# Altium integrated library Vishay Draloric Ceramic Tubular Capacitor.IntLib: 94 symbols (part 1 of 2)
Pins are listed as number, name and electrical type; pins without a type are passive.

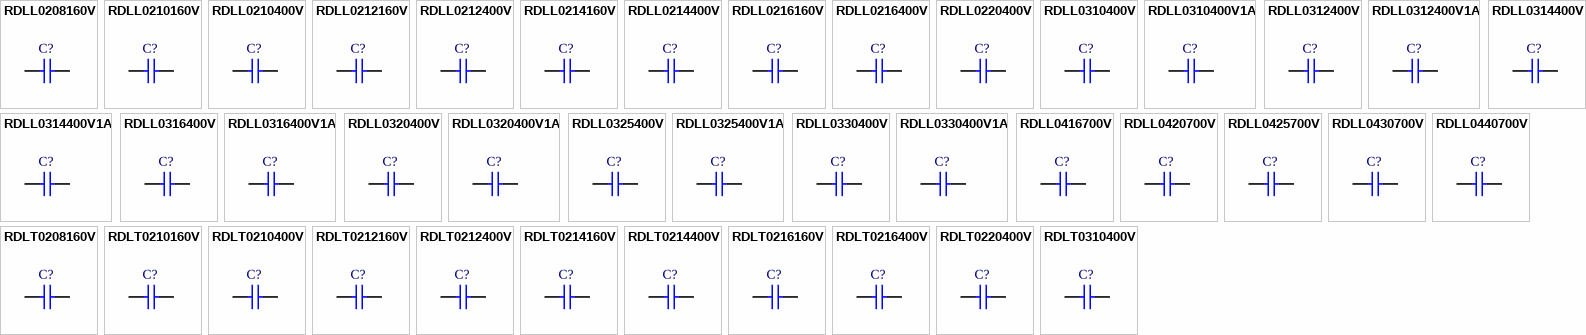
[diagram p0: symbols RDLL0208160V to RDLT0310400V]

## RDLL0208160V
designator C?
Ceramic Singlelayer Tubular Capacitor: 160V, 8mm tube length; Note: See Datasheet for other packages & tolerances; Value: 10pF; Published: 17-Dec-2003; DatasheetDocument: 15-Aug-2000; PackageReference: CAPRT5-9X3.5; Publisher: Altium Limited; ComponentLink1Description: Manufacturer Link; ComponentLink1URL: http://www.vishay.com/; ComponentLink2Description: Datasheet; ComponentLink2URL: http://www.vishay.com/docs/22021/rdlllt02.pdf
footprint CAPRT5-9X3.5 (Capacitor, Ceramic, Thu-Hole, Tubular; Body 9 x 3.5 mm (LxDia. max) Pin Spacing 5 mm (typ))
simulation model CAP (Capacitor)
signal-integrity model Cap
pins: 1, 2

## RDLL0210160V
designator C?
Ceramic Singlelayer Tubular Capacitor: 160V, 10mm tube length; Note: See Datasheet for other packages & tolerances; Value: 10pF; Published: 17-Dec-2003; DatasheetDocument: 15-Aug-2000; PackageReference: CAPRT5-11X3.5; Publisher: Altium Limited; ComponentLink1Description: Manufacturer Link; ComponentLink1URL: http://www.vishay.com/; ComponentLink2Description: Datasheet; ComponentLink2URL: http://www.vishay.com/docs/22021/rdlllt02.pdf
footprint CAPRT5-11X3.5 (Capacitor, Ceramic, Thu-Hole, Tubular; Body 11 x 3.5 mm (LxDia. max) Pin Spacing 5 mm (typ))
simulation model CAP (Capacitor)
signal-integrity model Cap
pins: 1, 2

## RDLL0210400V
designator C?
Ceramic Singlelayer Tubular Capacitor: 400V, 10mm tube length; Note: See Datasheet for other packages & tolerances; Value: 9.1pF; Published: 17-Dec-2003; DatasheetDocument: 15-Aug-2000; PackageReference: CAPRT5-11X3.5; Publisher: Altium Limited; ComponentLink1Description: Manufacturer Link; ComponentLink1URL: http://www.vishay.com/; ComponentLink2Description: Datasheet; ComponentLink2URL: http://www.vishay.com/docs/22021/rdlllt02.pdf
footprint CAPRT5-11X3.5 (Capacitor, Ceramic, Thu-Hole, Tubular; Body 11 x 3.5 mm (LxDia. max) Pin Spacing 5 mm (typ))
simulation model CAP (Capacitor)
signal-integrity model Cap
pins: 1, 2

## RDLL0212160V
designator C?
Ceramic Singlelayer Tubular Capacitor: 160V, 12mm tube length; Note: See Datasheet for other packages & tolerances; Value: 10pF; Published: 17-Dec-2003; DatasheetDocument: 15-Aug-2000; PackageReference: CAPRT7.5-13X3.5; Publisher: Altium Limited; ComponentLink1Description: Manufacturer Link; ComponentLink1URL: http://www.vishay.com/; ComponentLink2Description: Datasheet; ComponentLink2URL: http://www.vishay.com/docs/22021/rdlllt02.pdf
footprint CAPRT7.5-13X3.5 (Capacitor, Ceramic, Thu-Hole, Tubular; Body 13 x 3.5 mm (LxDia. max) Pin Spacing 7.5 mm (typ))
simulation model CAP (Capacitor)
signal-integrity model Cap
pins: 1, 2

## RDLL0212400V
designator C?
Ceramic Singlelayer Tubular Capacitor: 400V, 12mm tube length; Note: See Datasheet for other packages & tolerances; Value: 9.1pF; Published: 17-Dec-2003; DatasheetDocument: 15-Aug-2000; PackageReference: CAPRT5-13X3.5; Publisher: Altium Limited; ComponentLink1Description: Manufacturer Link; ComponentLink1URL: http://www.vishay.com/; ComponentLink2Description: Datasheet; ComponentLink2URL: http://www.vishay.com/docs/22021/rdlllt02.pdf
footprint CAPRT5-13X3.5 (Capacitor, Ceramic, Thu-Hole, Tubular; Body 13 x 3.5 mm (LxDia. max) Pin Spacing 5 mm (typ))
simulation model CAP (Capacitor)
signal-integrity model Cap
pins: 1, 2

## RDLL0214160V
designator C?
Ceramic Singlelayer Tubular Capacitor: 160V, 14mm tube length; Note: See Datasheet for other packages & tolerances; Value: 10pF; Published: 17-Dec-2003; DatasheetDocument: 15-Aug-2000; PackageReference: CAPRT7.5-15X3.5; Publisher: Altium Limited; ComponentLink1Description: Manufacturer Link; ComponentLink1URL: http://www.vishay.com/; ComponentLink2Description: Datasheet; ComponentLink2URL: http://www.vishay.com/docs/22021/rdlllt02.pdf
footprint CAPRT7.5-15X3.5 (Capacitor, Ceramic, Thu-Hole, Tubular; Body 15 x 3.5 mm (LxDia. max) Pin Spacing 7.5 mm (typ))
simulation model CAP (Capacitor)
signal-integrity model Cap
pins: 1, 2

## RDLL0214400V
designator C?
Ceramic Singlelayer Tubular Capacitor: 400V, 14mm tube length; Note: See Datasheet for other packages & tolerances; Value: 9.1pF; Published: 17-Dec-2003; DatasheetDocument: 15-Aug-2000; PackageReference: CAPRT7.5-15X3.5; Publisher: Altium Limited; ComponentLink1Description: Manufacturer Link; ComponentLink1URL: http://www.vishay.com/; ComponentLink2Description: Datasheet; ComponentLink2URL: http://www.vishay.com/docs/22021/rdlllt02.pdf
footprint CAPRT7.5-15X3.5 (Capacitor, Ceramic, Thu-Hole, Tubular; Body 15 x 3.5 mm (LxDia. max) Pin Spacing 7.5 mm (typ))
simulation model CAP (Capacitor)
signal-integrity model Cap
pins: 1, 2

## RDLL0216160V
designator C?
Ceramic Singlelayer Tubular Capacitor: 160V, 16mm tube length; Note: See Datasheet for other packages & tolerances; Value: 10pF; Published: 17-Dec-2003; DatasheetDocument: 15-Aug-2000; PackageReference: CAPRT7.5-17X3.5; Publisher: Altium Limited; ComponentLink1Description: Manufacturer Link; ComponentLink1URL: http://www.vishay.com/; ComponentLink2Description: Datasheet; ComponentLink2URL: http://www.vishay.com/docs/22021/rdlllt02.pdf
footprint CAPRT7.5-17X3.5 (Capacitor, Ceramic, Thu-Hole, Tubular; Body 17 x 3.5 mm (LxDia. max) Pin Spacing 7.5 mm (typ))
simulation model CAP (Capacitor)
signal-integrity model Cap
pins: 1, 2

## RDLL0216400V
designator C?
Ceramic Singlelayer Tubular Capacitor: 400V, 16mm tube length; Note: See Datasheet for other packages & tolerances; Value: 9.1pF; Published: 17-Dec-2003; DatasheetDocument: 15-Aug-2000; PackageReference: CAPRT10-17X3.5; Publisher: Altium Limited; ComponentLink1Description: Manufacturer Link; ComponentLink1URL: http://www.vishay.com/; ComponentLink2Description: Datasheet; ComponentLink2URL: http://www.vishay.com/docs/22021/rdlllt02.pdf
footprint CAPRT10-17X3.5 (Capacitor, Ceramic, Thu-Hole, Tubular; Body 17 x 3.5 mm (LxDia. max) Pin Spacing 10 mm (typ))
simulation model CAP (Capacitor)
signal-integrity model Cap
pins: 1, 2

## RDLL0220400V
designator C?
Ceramic Singlelayer Tubular Capacitor: 400V, 20mm tube length; Note: See Datasheet for other packages & tolerances; Value: 9.1pF; Published: 17-Dec-2003; DatasheetDocument: 15-Aug-2000; PackageReference: CAPRT15-21X3.5; Publisher: Altium Limited; ComponentLink1Description: Manufacturer Link; ComponentLink1URL: http://www.vishay.com/; ComponentLink2Description: Datasheet; ComponentLink2URL: http://www.vishay.com/docs/22021/rdlllt02.pdf
footprint CAPRT15-21X3.5 (Capacitor, Ceramic, Thu-Hole, Tubular; Body 21 x 3.5 mm (LxDia. max) Pin Spacing 15 mm (typ))
simulation model CAP (Capacitor)
signal-integrity model Cap
pins: 1, 2

## RDLL0310400V
designator C?
Ceramic Singlelayer Tubular Capacitor: 400V, 10mm tube length; Note: See Datasheet for other packages & tolerances; Value: 2pF; Published: 17-Dec-2003; DatasheetDocument: 3-Sep-2000; PackageReference: CAPRT5-11X5; Publisher: Altium Limited; ComponentLink1Description: Manufacturer Link; ComponentLink1URL: http://www.vishay.com/; ComponentLink2Description: Datasheet; ComponentLink2URL: http://www.vishay.com/docs/22023/rdl03.pdf
footprint CAPRT5-11X5 (Capacitor, Ceramic, Thu-Hole, Tubular; Body 11 x 5 mm (LxDia. max) Pin Spacing 5 mm (typ))
simulation model CAP (Capacitor)
signal-integrity model Cap
pins: 1, 2

## RDLL0310400V1A
designator C?
Ceramic Singlelayer Tubular Capacitor: 400V with Narrowed ac-tolerance (Class 1A), 10mm tube length; Note: See Datasheet for other packages & tolerances; Value: 15pF; Published: 17-Dec-2003; DatasheetDocument: 3-Sep-2000; PackageReference: CAPRT5-11X5; Publisher: Altium Limited; Note: Narrowed AC-tolerance (Class 1A); ComponentLink1Description: Manufacturer Link; ComponentLink1URL: http://www.vishay.com/; ComponentLink2Description: Datasheet; ComponentLink2URL: http://www.vishay.com/docs/22023/rdl03.pdf
footprint CAPRT5-11X5 (Capacitor, Ceramic, Thu-Hole, Tubular; Body 11 x 5 mm (LxDia. max) Pin Spacing 5 mm (typ))
simulation model CAP (Capacitor)
signal-integrity model Cap
pins: 1, 2

## RDLL0312400V
designator C?
Ceramic Singlelayer Tubular Capacitor: 400V, 12mm tube length; Note: See Datasheet for other packages & tolerances; Value: 2pF; Published: 17-Dec-2003; DatasheetDocument: 3-Sep-2000; PackageReference: CAPRT7.5-13X5; Publisher: Altium Limited; ComponentLink1Description: Manufacturer Link; ComponentLink1URL: http://www.vishay.com/; ComponentLink2Description: Datasheet; ComponentLink2URL: http://www.vishay.com/docs/22023/rdl03.pdf
footprint CAPRT7.5-13X5 (Capacitor, Ceramic, Thu-Hole, Tubular; Body 13 x 5 mm (LxDia. max) Pin Spacing 7.5 mm (typ))
simulation model CAP (Capacitor)
signal-integrity model Cap
pins: 1, 2

## RDLL0312400V1A
designator C?
Ceramic Singlelayer Tubular Capacitor: 400V with Narrowed ac-tolerance (Class 1A), 12mm tube length; Note: See Datasheet for other packages & tolerances; Value: 15pF; Published: 17-Dec-2003; DatasheetDocument: 3-Sep-2000; PackageReference: CAPRT7.5-13X5; Publisher: Altium Limited; Note: Narrowed AC-tolerance (Class 1A); ComponentLink1Description: Manufacturer Link; ComponentLink1URL: http://www.vishay.com/; ComponentLink2Description: Datasheet; ComponentLink2URL: http://www.vishay.com/docs/22023/rdl03.pdf
footprint CAPRT7.5-13X5 (Capacitor, Ceramic, Thu-Hole, Tubular; Body 13 x 5 mm (LxDia. max) Pin Spacing 7.5 mm (typ))
simulation model CAP (Capacitor)
signal-integrity model Cap
pins: 1, 2

## RDLL0314400V
designator C?
Ceramic Singlelayer Tubular Capacitor: 400V, 14mm tube length; Note: See Datasheet for other packages & tolerances; Value: 2pF; Published: 17-Dec-2003; DatasheetDocument: 3-Sep-2000; PackageReference: CAPRT7.5-15X5; Publisher: Altium Limited; ComponentLink1Description: Manufacturer Link; ComponentLink1URL: http://www.vishay.com/; ComponentLink2Description: Datasheet; ComponentLink2URL: http://www.vishay.com/docs/22023/rdl03.pdf
footprint CAPRT7.5-15X5 (Capacitor, Ceramic, Thu-Hole, Tubular; Body 15 x 5 mm (LxDia. max) Pin Spacing 7.5 mm (typ))
simulation model CAP (Capacitor)
signal-integrity model Cap
pins: 1, 2

## RDLL0314400V1A
designator C?
Ceramic Singlelayer Tubular Capacitor: 400V with Narrowed ac-tolerance (Class 1A), 14mm tube length; Note: See Datasheet for other packages & tolerances; Value: 15pF; Published: 17-Dec-2003; DatasheetDocument: 3-Sep-2000; PackageReference: CAPRT7.5-15X5; Publisher: Altium Limited; Note: Narrowed AC-tolerance (Class 1A); ComponentLink1Description: Manufacturer Link; ComponentLink1URL: http://www.vishay.com/; ComponentLink2Description: Datasheet; ComponentLink2URL: http://www.vishay.com/docs/22023/rdl03.pdf
footprint CAPRT7.5-15X5 (Capacitor, Ceramic, Thu-Hole, Tubular; Body 15 x 5 mm (LxDia. max) Pin Spacing 7.5 mm (typ))
simulation model CAP (Capacitor)
signal-integrity model Cap
pins: 1, 2

## RDLL0316400V
designator C?
Ceramic Singlelayer Tubular Capacitor: 400V, 16mm tube length; Note: See Datasheet for other packages & tolerances; Value: 2pF; Published: 17-Dec-2003; DatasheetDocument: 3-Sep-2000; PackageReference: CAPRT10-17X5; Publisher: Altium Limited; ComponentLink1Description: Manufacturer Link; ComponentLink1URL: http://www.vishay.com/; ComponentLink2Description: Datasheet; ComponentLink2URL: http://www.vishay.com/docs/22023/rdl03.pdf
footprint CAPRT10-17X5 (Capacitor, Ceramic, Thu-Hole, Tubular; Body 17 x 5 mm (LxDia. max) Pin Spacing 10 mm (typ))
simulation model CAP (Capacitor)
signal-integrity model Cap
pins: 1, 2

## RDLL0316400V1A
designator C?
Ceramic Singlelayer Tubular Capacitor: 400V with Narrowed ac-tolerance (Class 1A), 16mm tube length; Note: See Datasheet for other packages & tolerances; Value: 15pF; Published: 17-Dec-2003; DatasheetDocument: 3-Sep-2000; PackageReference: CAPRT10-17X5; Publisher: Altium Limited; Note: Narrowed AC-tolerance (Class 1A); ComponentLink1Description: Manufacturer Link; ComponentLink1URL: http://www.vishay.com/; ComponentLink2Description: Datasheet; ComponentLink2URL: http://www.vishay.com/docs/22023/rdl03.pdf
footprint CAPRT10-17X5 (Capacitor, Ceramic, Thu-Hole, Tubular; Body 17 x 5 mm (LxDia. max) Pin Spacing 10 mm (typ))
simulation model CAP (Capacitor)
signal-integrity model Cap
pins: 1, 2

## RDLL0320400V
designator C?
Ceramic Singlelayer Tubular Capacitor: 400V, 20mm tube length; Note: See Datasheet for other packages & tolerances; Value: 2pF; Published: 17-Dec-2003; DatasheetDocument: 3-Sep-2000; PackageReference: CAPRT15-21X5; Publisher: Altium Limited; ComponentLink1Description: Manufacturer Link; ComponentLink1URL: http://www.vishay.com/; ComponentLink2Description: Datasheet; ComponentLink2URL: http://www.vishay.com/docs/22023/rdl03.pdf
footprint CAPRT15-21X5 (Capacitor, Ceramic, Thu-Hole, Tubular; Body 21 x 5 mm (LxDia. max) Pin Spacing 15 mm (typ))
simulation model CAP (Capacitor)
signal-integrity model Cap
pins: 1, 2

## RDLL0320400V1A
designator C?
Ceramic Singlelayer Tubular Capacitor: 400V with Narrowed ac-tolerance (Class 1A), 20mm tube length; Note: See Datasheet for other packages & tolerances; Value: 15pF; Published: 17-Dec-2003; DatasheetDocument: 3-Sep-2000; PackageReference: CAPRT15-21X5; Publisher: Altium Limited; Note: Narrowed AC-tolerance (Class 1A); ComponentLink1Description: Manufacturer Link; ComponentLink1URL: http://www.vishay.com/; ComponentLink2Description: Datasheet; ComponentLink2URL: http://www.vishay.com/docs/22023/rdl03.pdf
footprint CAPRT15-21X5 (Capacitor, Ceramic, Thu-Hole, Tubular; Body 21 x 5 mm (LxDia. max) Pin Spacing 15 mm (typ))
simulation model CAP (Capacitor)
signal-integrity model Cap
pins: 1, 2

## RDLL0325400V
designator C?
Ceramic Singlelayer Tubular Capacitor: 400V, 25mm tube length; Note: See Datasheet for other packages & tolerances; Value: 2pF; Published: 17-Dec-2003; DatasheetDocument: 3-Sep-2000; PackageReference: CAPRT17.5-26X5; Publisher: Altium Limited; ComponentLink1Description: Manufacturer Link; ComponentLink1URL: http://www.vishay.com/; ComponentLink2Description: Datasheet; ComponentLink2URL: http://www.vishay.com/docs/22023/rdl03.pdf
footprint CAPRT17.5-26X5 (Capacitor, Ceramic, Thu-Hole, Tubular; Body 26 x 5 mm (LxDia. max) Pin Spacing 17.5 mm (typ))
simulation model CAP (Capacitor)
signal-integrity model Cap
pins: 1, 2

## RDLL0325400V1A
designator C?
Ceramic Singlelayer Tubular Capacitor: 400V with Narrowed ac-tolerance (Class 1A), 25mm tube length; Note: See Datasheet for other packages & tolerances; Value: 15pF; Published: 17-Dec-2003; DatasheetDocument: 3-Sep-2000; PackageReference: CAPRT17.5-26X5; Publisher: Altium Limited; Note: Narrowed AC-tolerance (Class 1A); ComponentLink1Description: Manufacturer Link; ComponentLink1URL: http://www.vishay.com/; ComponentLink2Description: Datasheet; ComponentLink2URL: http://www.vishay.com/docs/22023/rdl03.pdf
footprint CAPRT17.5-26X5 (Capacitor, Ceramic, Thu-Hole, Tubular; Body 26 x 5 mm (LxDia. max) Pin Spacing 17.5 mm (typ))
simulation model CAP (Capacitor)
signal-integrity model Cap
pins: 1, 2

## RDLL0330400V
designator C?
Ceramic Singlelayer Tubular Capacitor: 400V, 30mm tube length; Note: See Datasheet for other packages & tolerances; Value: 2pF; Published: 17-Dec-2003; DatasheetDocument: 3-Sep-2000; PackageReference: CAPRT20-31X5; Publisher: Altium Limited; ComponentLink1Description: Manufacturer Link; ComponentLink1URL: http://www.vishay.com/; ComponentLink2Description: Datasheet; ComponentLink2URL: http://www.vishay.com/docs/22023/rdl03.pdf
footprint CAPRT20-31X5 (Capacitor, Ceramic, Thu-Hole, Tubular; Body 31 x 5 mm (LxDia. max) Pin Spacing 20 mm (typ))
simulation model CAP (Capacitor)
signal-integrity model Cap
pins: 1, 2

## RDLL0330400V1A
designator C?
Ceramic Singlelayer Tubular Capacitor: 400V with Narrowed ac-tolerance (Class 1A), 30mm tube length; Note: See Datasheet for other packages & tolerances; Value: 15pF; Published: 17-Dec-2003; DatasheetDocument: 3-Sep-2000; PackageReference: CAPRT20-31X5; Publisher: Altium Limited; Note: Narrowed AC-tolerance (Class 1A); ComponentLink1Description: Manufacturer Link; ComponentLink1URL: http://www.vishay.com/; ComponentLink2Description: Datasheet; ComponentLink2URL: http://www.vishay.com/docs/22023/rdl03.pdf
footprint CAPRT20-31X5 (Capacitor, Ceramic, Thu-Hole, Tubular; Body 31 x 5 mm (LxDia. max) Pin Spacing 20 mm (typ))
simulation model CAP (Capacitor)
signal-integrity model Cap
pins: 1, 2

## RDLL0416700V
designator C?
Ceramic Singlelayer Tubular Capacitor: 700V, 16mm tube length; Note: See Datasheet for other packages & tolerances; Value: 20pF; Published: 17-Dec-2003; DatasheetDocument: 4-Sep-2000; PackageReference: CAPRT10-17X6; Publisher: Altium Limited; ComponentLink1Description: Manufacturer Link; ComponentLink1URL: http://www.vishay.com/; ComponentLink2Description: Datasheet; ComponentLink2URL: http://www.vishay.com/docs/22024/rdl04.pdf
footprint CAPRT10-17X6 (Capacitor, Ceramic, Thu-Hole, Tubular; Body 17 x 6 mm (LxDia. max) Pin Spacing 10 mm (typ))
simulation model CAP (Capacitor)
signal-integrity model Cap
pins: 1, 2

## RDLL0420700V
designator C?
Ceramic Singlelayer Tubular Capacitor: 700V, 20mm tube length; Note: See Datasheet for other packages & tolerances; Value: 20pF; Published: 17-Dec-2003; DatasheetDocument: 4-Sep-2000; PackageReference: CAPRT15-21X6; Publisher: Altium Limited; ComponentLink1Description: Manufacturer Link; ComponentLink1URL: http://www.vishay.com/; ComponentLink2Description: Datasheet; ComponentLink2URL: http://www.vishay.com/docs/22024/rdl04.pdf
footprint CAPRT15-21X6 (Capacitor, Ceramic, Thu-Hole, Tubular; Body 21 x 6 mm (LxDia. max) Pin Spacing 15 mm (typ))
simulation model CAP (Capacitor)
signal-integrity model Cap
pins: 1, 2

## RDLL0425700V
designator C?
Ceramic Singlelayer Tubular Capacitor: 700V, 25mm tube length; Note: See Datasheet for other packages & tolerances; Value: 20pF; Published: 17-Dec-2003; DatasheetDocument: 4-Sep-2000; PackageReference: CAPRT17.5-26X6; Publisher: Altium Limited; ComponentLink1Description: Manufacturer Link; ComponentLink1URL: http://www.vishay.com/; ComponentLink2Description: Datasheet; ComponentLink2URL: http://www.vishay.com/docs/22024/rdl04.pdf
footprint CAPRT17.5-26X6 (Capacitor, Ceramic, Thu-Hole, Tubular; Body 26 x 6 mm (LxDia. max) Pin Spacing 17.5 mm (typ))
simulation model CAP (Capacitor)
signal-integrity model Cap
pins: 1, 2

## RDLL0430700V
designator C?
Ceramic Singlelayer Tubular Capacitor: 700V, 30mm tube length; Note: See Datasheet for other packages & tolerances; Value: 20pF; Published: 17-Dec-2003; DatasheetDocument: 4-Sep-2000; PackageReference: CAPRT20-31X6; Publisher: Altium Limited; ComponentLink1Description: Manufacturer Link; ComponentLink1URL: http://www.vishay.com/; ComponentLink2Description: Datasheet; ComponentLink2URL: http://www.vishay.com/docs/22024/rdl04.pdf
footprint CAPRT20-31X6 (Capacitor, Ceramic, Thu-Hole, Tubular; Body 31 x 6 mm (LxDia. max) Pin Spacing 20 mm (typ))
simulation model CAP (Capacitor)
signal-integrity model Cap
pins: 1, 2

## RDLL0440700V
designator C?
Ceramic Singlelayer Tubular Capacitor: 700V, 40mm tube length; Note: See Datasheet for other packages & tolerances; Value: 20pF; Published: 17-Dec-2003; DatasheetDocument: 4-Sep-2000; PackageReference: CAPRT30-41X6; Publisher: Altium Limited; ComponentLink1Description: Manufacturer Link; ComponentLink1URL: http://www.vishay.com/; ComponentLink2Description: Datasheet; ComponentLink2URL: http://www.vishay.com/docs/22024/rdl04.pdf
footprint CAPRT30-41X6 (Capacitor, Ceramic, Thu-Hole, Tubular; Body 41 x 6 mm (LxDia. max) Pin Spacing 30 mm (typ))
simulation model CAP (Capacitor)
signal-integrity model Cap
pins: 1, 2

## RDLT0208160V
designator C?
Ceramic Singlelayer Tubular Capacitor: 160V, 8mm tube length; Note: See Datasheet for other packages & tolerances; Value: 10pF; Published: 17-Dec-2003; DatasheetDocument: 15-Aug-2000; PackageReference: CAPRT5-10X4.5; Publisher: Altium Limited; ComponentLink1Description: Manufacturer Link; ComponentLink1URL: http://www.vishay.com/; ComponentLink2Description: Datasheet; ComponentLink2URL: http://www.vishay.com/docs/22021/rdlllt02.pdf
footprint CAPRT5-10X4.5 (Capacitor, Ceramic, Thu-Hole, Tubular; Body 10 x 4.5 mm (LxDia. max) Pin Spacing 5 mm (typ))
simulation model CAP (Capacitor)
signal-integrity model Cap
pins: 1, 2

## RDLT0210160V
designator C?
Ceramic Singlelayer Tubular Capacitor: 160V, 10mm tube length; Note: See Datasheet for other packages & tolerances; Value: 10pF; Published: 17-Dec-2003; DatasheetDocument: 15-Aug-2000; PackageReference: CAPRT5-12X4.5; Publisher: Altium Limited; ComponentLink1Description: Manufacturer Link; ComponentLink1URL: http://www.vishay.com/; ComponentLink2Description: Datasheet; ComponentLink2URL: http://www.vishay.com/docs/22021/rdlllt02.pdf
footprint CAPRT5-12X4.5 (Capacitor, Ceramic, Thu-Hole, Tubular; Body 12 x 4.5 mm (LxDia. max) Pin Spacing 5 mm (typ))
simulation model CAP (Capacitor)
signal-integrity model Cap
pins: 1, 2

## RDLT0210400V
designator C?
Ceramic Singlelayer Tubular Capacitor: 400V, 10mm tube length; Note: See Datasheet for other packages & tolerances; Value: 9.1pF; Published: 17-Dec-2003; DatasheetDocument: 15-Aug-2000; PackageReference: CAPRT5-12X4.5; Publisher: Altium Limited; ComponentLink1Description: Manufacturer Link; ComponentLink1URL: http://www.vishay.com/; ComponentLink2Description: Datasheet; ComponentLink2URL: http://www.vishay.com/docs/22021/rdlllt02.pdf
footprint CAPRT5-12X4.5 (Capacitor, Ceramic, Thu-Hole, Tubular; Body 12 x 4.5 mm (LxDia. max) Pin Spacing 5 mm (typ))
simulation model CAP (Capacitor)
signal-integrity model Cap
pins: 1, 2

## RDLT0212160V
designator C?
Ceramic Singlelayer Tubular Capacitor: 160V, 12mm tube length; Note: See Datasheet for other packages & tolerances; Value: 10pF; Published: 17-Dec-2003; DatasheetDocument: 15-Aug-2000; PackageReference: CAPRT7.5-14X4.5; Publisher: Altium Limited; ComponentLink1Description: Manufacturer Link; ComponentLink1URL: http://www.vishay.com/; ComponentLink2Description: Datasheet; ComponentLink2URL: http://www.vishay.com/docs/22021/rdlllt02.pdf
footprint CAPRT7.5-14X4.5 (Capacitor, Ceramic, Thu-Hole, Tubular; Body 14 x 4.5 mm (LxDia. max) Pin Spacing 7.5 mm (typ))
simulation model CAP (Capacitor)
signal-integrity model Cap
pins: 1, 2

## RDLT0212400V
designator C?
Ceramic Singlelayer Tubular Capacitor: 400V, 12mm tube length; Note: See Datasheet for other packages & tolerances; Value: 9.1pF; Published: 17-Dec-2003; DatasheetDocument: 15-Aug-2000; PackageReference: CAPRT5-14X4.5; Publisher: Altium Limited; ComponentLink1Description: Manufacturer Link; ComponentLink1URL: http://www.vishay.com/; ComponentLink2Description: Datasheet; ComponentLink2URL: http://www.vishay.com/docs/22021/rdlllt02.pdf
footprint CAPRT5-14X4.5 (Capacitor, Ceramic, Thu-Hole, Tubular; Body 14 x 4.5 mm (LxDia. max) Pin Spacing 5 mm (typ))
simulation model CAP (Capacitor)
signal-integrity model Cap
pins: 1, 2

## RDLT0214160V
designator C?
Ceramic Singlelayer Tubular Capacitor: 160V, 14mm tube length; Note: See Datasheet for other packages & tolerances; Value: 10pF; Published: 17-Dec-2003; DatasheetDocument: 15-Aug-2000; PackageReference: CAPRT7.5-16X4.5; Publisher: Altium Limited; ComponentLink1Description: Manufacturer Link; ComponentLink1URL: http://www.vishay.com/; ComponentLink2Description: Datasheet; ComponentLink2URL: http://www.vishay.com/docs/22021/rdlllt02.pdf
footprint CAPRT7.5-16X4.5 (Capacitor, Ceramic, Thu-Hole, Tubular; Body 16 x 4.5 mm (LxDia. max) Pin Spacing 7.5 mm (typ))
simulation model CAP (Capacitor)
signal-integrity model Cap
pins: 1, 2

## RDLT0214400V
designator C?
Ceramic Singlelayer Tubular Capacitor: 400V, 14mm tube length; Note: See Datasheet for other packages & tolerances; Value: 9.1pF; Published: 17-Dec-2003; DatasheetDocument: 15-Aug-2000; PackageReference: CAPRT7.5-16X4.5; Publisher: Altium Limited; ComponentLink1Description: Manufacturer Link; ComponentLink1URL: http://www.vishay.com/; ComponentLink2Description: Datasheet; ComponentLink2URL: http://www.vishay.com/docs/22021/rdlllt02.pdf
footprint CAPRT7.5-16X4.5 (Capacitor, Ceramic, Thu-Hole, Tubular; Body 16 x 4.5 mm (LxDia. max) Pin Spacing 7.5 mm (typ))
simulation model CAP (Capacitor)
signal-integrity model Cap
pins: 1, 2

## RDLT0216160V
designator C?
Ceramic Singlelayer Tubular Capacitor: 160V, 16mm tube length; Note: See Datasheet for other packages & tolerances; Value: 10pF; Published: 17-Dec-2003; DatasheetDocument: 15-Aug-2000; PackageReference: CAPRT7.5-18X4.5; Publisher: Altium Limited; ComponentLink1Description: Manufacturer Link; ComponentLink1URL: http://www.vishay.com/; ComponentLink2Description: Datasheet; ComponentLink2URL: http://www.vishay.com/docs/22021/rdlllt02.pdf
footprint CAPRT7.5-18X4.5 (Capacitor, Ceramic, Thu-Hole, Tubular; Body 18 x 4.5 mm (LxDia. max) Pin Spacing 7.5 mm (typ))
simulation model CAP (Capacitor)
signal-integrity model Cap
pins: 1, 2

## RDLT0216400V
designator C?
Ceramic Singlelayer Tubular Capacitor: 400V, 16mm tube length; Note: See Datasheet for other packages & tolerances; Value: 9.1pF; Published: 17-Dec-2003; DatasheetDocument: 15-Aug-2000; PackageReference: CAPRT7.5-18X4.5; Publisher: Altium Limited; ComponentLink1Description: Manufacturer Link; ComponentLink1URL: http://www.vishay.com/; ComponentLink2Description: Datasheet; ComponentLink2URL: http://www.vishay.com/docs/22021/rdlllt02.pdf
footprint CAPRT7.5-18X4.5 (Capacitor, Ceramic, Thu-Hole, Tubular; Body 18 x 4.5 mm (LxDia. max) Pin Spacing 7.5 mm (typ))
simulation model CAP (Capacitor)
signal-integrity model Cap
pins: 1, 2

## RDLT0220400V
designator C?
Ceramic Singlelayer Tubular Capacitor: 400V, 20mm tube length; Note: See Datasheet for other packages & tolerances; Value: 9.1pF; Published: 17-Dec-2003; DatasheetDocument: 15-Aug-2000; PackageReference: CAPRT15-22X4.5; Publisher: Altium Limited; ComponentLink1Description: Manufacturer Link; ComponentLink1URL: http://www.vishay.com/; ComponentLink2Description: Datasheet; ComponentLink2URL: http://www.vishay.com/docs/22021/rdlllt02.pdf
footprint CAPRT15-22X4.5 (Capacitor, Ceramic, Thu-Hole, Tubular; Body 22 x 4.5 mm (LxDia. max) Pin Spacing 15 mm (typ))
simulation model CAP (Capacitor)
signal-integrity model Cap
pins: 1, 2

## RDLT0310400V
designator C?
Ceramic Singlelayer Tubular Capacitor: 400V, 10mm tube length; Note: See Datasheet for other packages & tolerances; Value: 2pF; Published: 17-Dec-2003; DatasheetDocument: 3-Sep-2000; PackageReference: CAPRT5-12X6; Publisher: Altium Limited; ComponentLink1Description: Manufacturer Link; ComponentLink1URL: http://www.vishay.com/; ComponentLink2Description: Datasheet; ComponentLink2URL: http://www.vishay.com/docs/22023/rdl03.pdf
footprint CAPRT5-12X6 (Capacitor, Ceramic, Thu-Hole, Tubular; Body 12 x 6 mm (LxDia. max) Pin Spacing 5 mm (typ))
simulation model CAP (Capacitor)
signal-integrity model Cap
pins: 1, 2

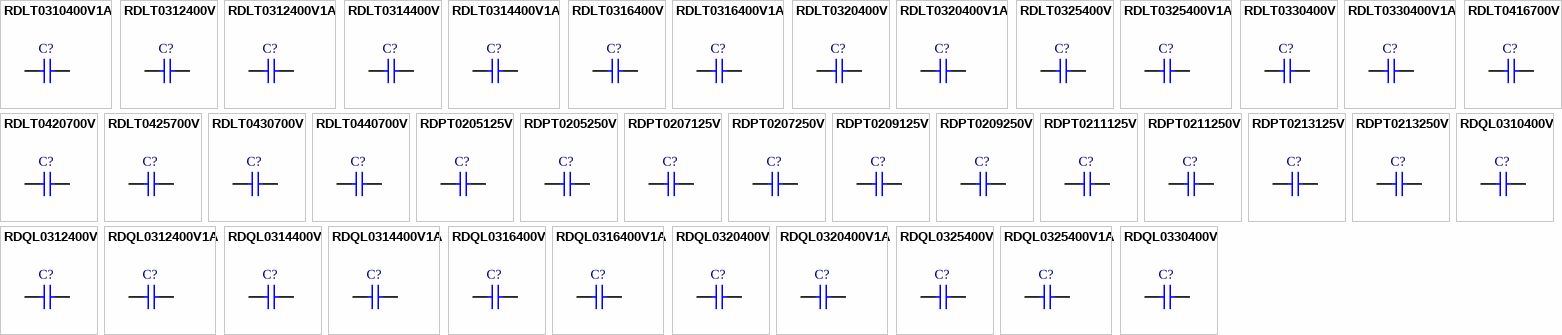
[diagram p1: symbols RDLT0310400V1A to RDQL0330400V]

## RDLT0310400V1A
designator C?
Ceramic Singlelayer Tubular Capacitor: 400V with Narrowed ac-tolerance (Class 1A), 10mm tube length; Note: See Datasheet for other packages & tolerances; Value: 15pF; Published: 17-Dec-2003; DatasheetDocument: 3-Sep-2000; PackageReference: CAPRT5-12X7; Publisher: Altium Limited; Note: Narrowed AC-tolerance (Class 1A); ComponentLink1Description: Manufacturer Link; ComponentLink1URL: http://www.vishay.com/; ComponentLink2Description: Datasheet; ComponentLink2URL: http://www.vishay.com/docs/22023/rdl03.pdf
footprint CAPRT5-12X7 (Capacitor, Ceramic, Thu-Hole, Tubular; Body 12 x 7 mm (LxDia. max) Pin Spacing 5 mm (typ))
simulation model CAP (Capacitor)
signal-integrity model Cap
pins: 1, 2

## RDLT0312400V
designator C?
Ceramic Singlelayer Tubular Capacitor: 400V, 12mm tube length; Note: See Datasheet for other packages & tolerances; Value: 2pF; Published: 17-Dec-2003; DatasheetDocument: 3-Sep-2000; PackageReference: CAPRT7.5-14X6; Publisher: Altium Limited; ComponentLink1Description: Manufacturer Link; ComponentLink1URL: http://www.vishay.com/; ComponentLink2Description: Datasheet; ComponentLink2URL: http://www.vishay.com/docs/22023/rdl03.pdf
footprint CAPRT7.5-14X6 (Capacitor, Ceramic, Thu-Hole, Tubular; Body 14 x 6 mm (LxDia. max) Pin Spacing 7.5 mm (typ))
simulation model CAP (Capacitor)
signal-integrity model Cap
pins: 1, 2

## RDLT0312400V1A
designator C?
Ceramic Singlelayer Tubular Capacitor: 400V with Narrowed ac-tolerance (Class 1A), 12mm tube length; Note: See Datasheet for other packages & tolerances; Value: 15pF; Published: 17-Dec-2003; DatasheetDocument: 3-Sep-2000; PackageReference: CAPRT7.5-14X7; Publisher: Altium Limited; Note: Narrowed AC-tolerance (Class 1A); ComponentLink1Description: Manufacturer Link; ComponentLink1URL: http://www.vishay.com/; ComponentLink2Description: Datasheet; ComponentLink2URL: http://www.vishay.com/docs/22023/rdl03.pdf
footprint CAPRT7.5-14X7 (Capacitor, Ceramic, Thu-Hole, Tubular; Body 14 x 7 mm (LxDia. max) Pin Spacing 7.5 mm (typ))
simulation model CAP (Capacitor)
signal-integrity model Cap
pins: 1, 2

## RDLT0314400V
designator C?
Ceramic Singlelayer Tubular Capacitor: 400V, 14mm tube length; Note: See Datasheet for other packages & tolerances; Value: 2pF; Published: 17-Dec-2003; DatasheetDocument: 3-Sep-2000; PackageReference: CAPRT7.5-16X6; Publisher: Altium Limited; ComponentLink1Description: Manufacturer Link; ComponentLink1URL: http://www.vishay.com/; ComponentLink2Description: Datasheet; ComponentLink2URL: http://www.vishay.com/docs/22023/rdl03.pdf
footprint CAPRT7.5-16X6 (Capacitor, Ceramic, Thu-Hole, Tubular; Body 16 x 6 mm (LxDia. max) Pin Spacing 7.5 mm (typ))
simulation model CAP (Capacitor)
signal-integrity model Cap
pins: 1, 2

## RDLT0314400V1A
designator C?
Ceramic Singlelayer Tubular Capacitor: 400V with Narrowed ac-tolerance (Class 1A), 14mm tube length; Note: See Datasheet for other packages & tolerances; Value: 15pF; Published: 17-Dec-2003; DatasheetDocument: 3-Sep-2000; PackageReference: CAPRT7.5-16X7; Publisher: Altium Limited; Note: Narrowed AC-tolerance (Class 1A); ComponentLink1Description: Manufacturer Link; ComponentLink1URL: http://www.vishay.com/; ComponentLink2Description: Datasheet; ComponentLink2URL: http://www.vishay.com/docs/22023/rdl03.pdf
footprint CAPRT7.5-16X7 (Capacitor, Ceramic, Thu-Hole, Tubular; Body 16 x 7 mm (LxDia. max) Pin Spacing 7.5 mm (typ))
simulation model CAP (Capacitor)
signal-integrity model Cap
pins: 1, 2

## RDLT0316400V
designator C?
Ceramic Singlelayer Tubular Capacitor: 400V, 16mm tube length; Note: See Datasheet for other packages & tolerances; Value: 2pF; Published: 17-Dec-2003; DatasheetDocument: 3-Sep-2000; PackageReference: CAPRT10-18X6; Publisher: Altium Limited; ComponentLink1Description: Manufacturer Link; ComponentLink1URL: http://www.vishay.com/; ComponentLink2Description: Datasheet; ComponentLink2URL: http://www.vishay.com/docs/22023/rdl03.pdf
footprint CAPRT10-18X6 (Capacitor, Ceramic, Thu-Hole, Tubular; Body 18 x 6 mm (LxDia. max) Pin Spacing 10 mm (typ))
simulation model CAP (Capacitor)
signal-integrity model Cap
pins: 1, 2

## RDLT0316400V1A
designator C?
Ceramic Singlelayer Tubular Capacitor: 400V with Narrowed ac-tolerance (Class 1A), 16mm tube length; Note: See Datasheet for other packages & tolerances; Value: 15pF; Published: 17-Dec-2003; DatasheetDocument: 3-Sep-2000; PackageReference: CAPRT10-18X7; Publisher: Altium Limited; Note: Narrowed AC-tolerance (Class 1A); ComponentLink1Description: Manufacturer Link; ComponentLink1URL: http://www.vishay.com/; ComponentLink2Description: Datasheet; ComponentLink2URL: http://www.vishay.com/docs/22023/rdl03.pdf
footprint CAPRT10-18X7 (Capacitor, Ceramic, Thu-Hole, Tubular; Body 18 x 7 mm (LxDia. max) Pin Spacing 10 mm (typ))
simulation model CAP (Capacitor)
signal-integrity model Cap
pins: 1, 2

## RDLT0320400V
designator C?
Ceramic Singlelayer Tubular Capacitor: 400V, 20mm tube length; Note: See Datasheet for other packages & tolerances; Value: 2pF; Published: 17-Dec-2003; DatasheetDocument: 3-Sep-2000; PackageReference: CAPRT15-22X6; Publisher: Altium Limited; ComponentLink1Description: Manufacturer Link; ComponentLink1URL: http://www.vishay.com/; ComponentLink2Description: Datasheet; ComponentLink2URL: http://www.vishay.com/docs/22023/rdl03.pdf
footprint CAPRT15-22X6 (Capacitor, Ceramic, Thu-Hole, Tubular; Body 22 x 6 mm (LxDia. max) Pin Spacing 15 mm (typ))
simulation model CAP (Capacitor)
signal-integrity model Cap
pins: 1, 2

## RDLT0320400V1A
designator C?
Ceramic Singlelayer Tubular Capacitor: 400V with Narrowed ac-tolerance (Class 1A), 20mm tube length; Note: See Datasheet for other packages & tolerances; Value: 15pF; Published: 17-Dec-2003; DatasheetDocument: 3-Sep-2000; PackageReference: CAPRT15-22X7; Publisher: Altium Limited; Note: Narrowed AC-tolerance (Class 1A); ComponentLink1Description: Manufacturer Link; ComponentLink1URL: http://www.vishay.com/; ComponentLink2Description: Datasheet; ComponentLink2URL: http://www.vishay.com/docs/22023/rdl03.pdf
footprint CAPRT15-22X7 (Capacitor, Ceramic, Thu-Hole, Tubular; Body 22 x 7 mm (LxDia. max) Pin Spacing 15 mm (typ))
simulation model CAP (Capacitor)
signal-integrity model Cap
pins: 1, 2

## RDLT0325400V
designator C?
Ceramic Singlelayer Tubular Capacitor: 400V, 25mm tube length; Note: See Datasheet for other packages & tolerances; Value: 2pF; Published: 17-Dec-2003; DatasheetDocument: 3-Sep-2000; PackageReference: CAPRT17.5-27X6; Publisher: Altium Limited; ComponentLink1Description: Manufacturer Link; ComponentLink1URL: http://www.vishay.com/; ComponentLink2Description: Datasheet; ComponentLink2URL: http://www.vishay.com/docs/22023/rdl03.pdf
footprint CAPRT17.5-27X6 (Capacitor, Ceramic, Thu-Hole, Tubular; Body 27 x 6 mm (LxDia. max) Pin Spacing 17.5 mm (typ))
simulation model CAP (Capacitor)
signal-integrity model Cap
pins: 1, 2

## RDLT0325400V1A
designator C?
Ceramic Singlelayer Tubular Capacitor: 400V with Narrowed ac-tolerance (Class 1A), 25mm tube length; Note: See Datasheet for other packages & tolerances; Value: 15pF; Published: 17-Dec-2003; DatasheetDocument: 3-Sep-2000; PackageReference: CAPRT17.5-27X7; Publisher: Altium Limited; Note: Narrowed AC-tolerance (Class 1A); ComponentLink1Description: Manufacturer Link; ComponentLink1URL: http://www.vishay.com/; ComponentLink2Description: Datasheet; ComponentLink2URL: http://www.vishay.com/docs/22023/rdl03.pdf
footprint CAPRT17.5-27X7 (Capacitor, Ceramic, Thu-Hole, Tubular; Body 27 x 7 mm (LxDia. max) Pin Spacing 17.5 mm (typ))
simulation model CAP (Capacitor)
signal-integrity model Cap
pins: 1, 2

## RDLT0330400V
designator C?
Ceramic Singlelayer Tubular Capacitor: 400V, 30mm tube length; Note: See Datasheet for other packages & tolerances; Value: 2pF; Published: 17-Dec-2003; DatasheetDocument: 3-Sep-2000; PackageReference: CAPRT20-32X6; Publisher: Altium Limited; ComponentLink1Description: Manufacturer Link; ComponentLink1URL: http://www.vishay.com/; ComponentLink2Description: Datasheet; ComponentLink2URL: http://www.vishay.com/docs/22023/rdl03.pdf
footprint CAPRT20-32X6 (Capacitor, Ceramic, Thu-Hole, Tubular; Body 32 x 6 mm (LxDia. max) Pin Spacing 20 mm (typ))
simulation model CAP (Capacitor)
signal-integrity model Cap
pins: 1, 2

## RDLT0330400V1A
designator C?
Ceramic Singlelayer Tubular Capacitor: 400V with Narrowed ac-tolerance (Class 1A), 30mm tube length; Note: See Datasheet for other packages & tolerances; Value: 15pF; Published: 17-Dec-2003; DatasheetDocument: 3-Sep-2000; PackageReference: CAPRT20-32X7; Publisher: Altium Limited; Note: Narrowed AC-tolerance (Class 1A); ComponentLink1Description: Manufacturer Link; ComponentLink1URL: http://www.vishay.com/; ComponentLink2Description: Datasheet; ComponentLink2URL: http://www.vishay.com/docs/22023/rdl03.pdf
footprint CAPRT20-32X7 (Capacitor, Ceramic, Thu-Hole, Tubular; Body 32 x 7 mm (LxDia. max) Pin Spacing 20 mm (typ))
simulation model CAP (Capacitor)
signal-integrity model Cap
pins: 1, 2

## RDLT0416700V
designator C?
Ceramic Singlelayer Tubular Capacitor: 700V, 16mm tube length; Note: See Datasheet for other packages & tolerances; Value: 20pF; Published: 17-Dec-2003; DatasheetDocument: 4-Sep-2000; PackageReference: CAPRT10-18X8; Publisher: Altium Limited; ComponentLink1Description: Manufacturer Link; ComponentLink1URL: http://www.vishay.com/; ComponentLink2Description: Datasheet; ComponentLink2URL: http://www.vishay.com/docs/22024/rdl04.pdf
footprint CAPRT10-18X8 (Capacitor, Ceramic, Thu-Hole, Tubular; Body 18 x 8 mm (LxDia. max) Pin Spacing 10 mm (typ))
simulation model CAP (Capacitor)
signal-integrity model Cap
pins: 1, 2

## RDLT0420700V
designator C?
Ceramic Singlelayer Tubular Capacitor: 700V, 20mm tube length; Note: See Datasheet for other packages & tolerances; Value: 20pF; Published: 17-Dec-2003; DatasheetDocument: 4-Sep-2000; PackageReference: CAPRT15-22X8; Publisher: Altium Limited; ComponentLink1Description: Manufacturer Link; ComponentLink1URL: http://www.vishay.com/; ComponentLink2Description: Datasheet; ComponentLink2URL: http://www.vishay.com/docs/22024/rdl04.pdf
footprint CAPRT15-22X8 (Capacitor, Ceramic, Thu-Hole, Tubular; Body 22 x 8 mm (LxDia. max) Pin Spacing 15 mm (typ))
simulation model CAP (Capacitor)
signal-integrity model Cap
pins: 1, 2

## RDLT0425700V
designator C?
Ceramic Singlelayer Tubular Capacitor: 700V, 25mm tube length; Note: See Datasheet for other packages & tolerances; Value: 20pF; Published: 17-Dec-2003; DatasheetDocument: 4-Sep-2000; PackageReference: CAPRT17.5-27X8; Publisher: Altium Limited; ComponentLink1Description: Manufacturer Link; ComponentLink1URL: http://www.vishay.com/; ComponentLink2Description: Datasheet; ComponentLink2URL: http://www.vishay.com/docs/22024/rdl04.pdf
footprint CAPRT17.5-27X8 (Capacitor, Ceramic, Thu-Hole, Tubular; Body 27 x 8 mm (LxDia. max) Pin Spacing 17.5 mm (typ))
simulation model CAP (Capacitor)
signal-integrity model Cap
pins: 1, 2

## RDLT0430700V
designator C?
Ceramic Singlelayer Tubular Capacitor: 700V, 30mm tube length; Note: See Datasheet for other packages & tolerances; Value: 20pF; Published: 17-Dec-2003; DatasheetDocument: 4-Sep-2000; PackageReference: CAPRT20-32X8; Publisher: Altium Limited; ComponentLink1Description: Manufacturer Link; ComponentLink1URL: http://www.vishay.com/; ComponentLink2Description: Datasheet; ComponentLink2URL: http://www.vishay.com/docs/22024/rdl04.pdf
footprint CAPRT20-32X8 (Capacitor, Ceramic, Thu-Hole, Tubular; Body 32 x 8 mm (LxDia. max) Pin Spacing 20 mm (typ))
simulation model CAP (Capacitor)
signal-integrity model Cap
pins: 1, 2

## RDLT0440700V
designator C?
Ceramic Singlelayer Tubular Capacitor: 700V, 40mm tube length; Note: See Datasheet for other packages & tolerances; Value: 20pF; Published: 17-Dec-2003; DatasheetDocument: 4-Sep-2000; PackageReference: CAPRT30-41X8; Publisher: Altium Limited; ComponentLink1Description: Manufacturer Link; ComponentLink1URL: http://www.vishay.com/; ComponentLink2Description: Datasheet; ComponentLink2URL: http://www.vishay.com/docs/22024/rdl04.pdf
footprint CAPRT30-41X8 (Capacitor, Ceramic, Thu-Hole, Tubular; Body 41 x 8 mm (LxDia. max) Pin Spacing 30 mm (typ))
simulation model CAP (Capacitor)
signal-integrity model Cap
pins: 1, 2

## RDPT0205125V
designator C?
Ceramic Singlelayer Tubular Capacitor: 125V, 5mm tube length; Note: See Datasheet for other packages & tolerances; Value: 6.8pF; Published: 17-Dec-2003; DatasheetDocument: 11-Aug-2000; PackageDocument: 11-Aug-2000; PackageReference: CAPRT3.3-6X3.5; Publisher: Altium Limited; ComponentLink1Description: Manufacturer Link; ComponentLink1URL: http://www.vishay.com/; ComponentLink2Description: Datasheet; ComponentLink2URL: http://www.vishay.com/docs/22020/rdpt02.pdf
footprint CAPRT3.3-6X3.5 (Capacitor, Ceramic, Thu-Hole, Tubular; Body 6 x 3.5 mm (LxDia. max) Pin Spacing 3.3 mm (typ))
simulation model CAP (Capacitor)
signal-integrity model Cap
pins: 1, 2

## RDPT0205250V
designator C?
Ceramic Singlelayer Tubular Capacitor: 250V, 5mm tube length; Note: See Datasheet for other packages & tolerances; Value: 6.8pF; Published: 17-Dec-2003; DatasheetDocument: 11-Aug-2000; PackageDocument: 11-Aug-2000; PackageReference: CAPRT3.3-6X3.5; Publisher: Altium Limited; ComponentLink1Description: Manufacturer Link; ComponentLink1URL: http://www.vishay.com/; ComponentLink2Description: Datasheet; ComponentLink2URL: http://www.vishay.com/docs/22020/rdpt02.pdf
footprint CAPRT3.3-6X3.5 (Capacitor, Ceramic, Thu-Hole, Tubular; Body 6 x 3.5 mm (LxDia. max) Pin Spacing 3.3 mm (typ))
simulation model CAP (Capacitor)
signal-integrity model Cap
pins: 1, 2

## RDPT0207125V
designator C?
Ceramic Singlelayer Tubular Capacitor: 125V, 7mm tube length; Note: See Datasheet for other packages & tolerances; Value: 6.8pF; Published: 17-Dec-2003; DatasheetDocument: 11-Aug-2000; PackageDocument: 11-Aug-2000; PackageReference: CAPRT4.5-8X3.5; Publisher: Altium Limited; ComponentLink1Description: Manufacturer Link; ComponentLink1URL: http://www.vishay.com/; ComponentLink2Description: Datasheet; ComponentLink2URL: http://www.vishay.com/docs/22020/rdpt02.pdf
footprint CAPRT4.5-8X3.5 (Capacitor, Ceramic, Thu-Hole, Tubular; Body 8 x 3.5 mm (LxDia. max) Pin Spacing 4.5 mm (typ))
simulation model CAP (Capacitor)
signal-integrity model Cap
pins: 1, 2

## RDPT0207250V
designator C?
Ceramic Singlelayer Tubular Capacitor: 250V, 7mm tube length; Note: See Datasheet for other packages & tolerances; Value: 6.8pF; Published: 17-Dec-2003; DatasheetDocument: 11-Aug-2000; PackageDocument: 11-Aug-2000; PackageReference: CAPRT4.5-8X3.5; Publisher: Altium Limited; ComponentLink1Description: Manufacturer Link; ComponentLink1URL: http://www.vishay.com/; ComponentLink2Description: Datasheet; ComponentLink2URL: http://www.vishay.com/docs/22020/rdpt02.pdf
footprint CAPRT4.5-8X3.5 (Capacitor, Ceramic, Thu-Hole, Tubular; Body 8 x 3.5 mm (LxDia. max) Pin Spacing 4.5 mm (typ))
simulation model CAP (Capacitor)
signal-integrity model Cap
pins: 1, 2

## RDPT0209125V
designator C?
Ceramic Singlelayer Tubular Capacitor: 125V, 9mm tube length; Note: See Datasheet for other packages & tolerances; Value: 6.8pF; Published: 17-Dec-2003; DatasheetDocument: 11-Aug-2000; PackageDocument: 11-Aug-2000; PackageReference: CAPRT6.5-10X3.5; Publisher: Altium Limited; ComponentLink1Description: Manufacturer Link; ComponentLink1URL: http://www.vishay.com/; ComponentLink2Description: Datasheet; ComponentLink2URL: http://www.vishay.com/docs/22020/rdpt02.pdf
footprint CAPRT6.5-10X3.5 (Capacitor, Ceramic, Thu-Hole, Tubular; Body 10 x 3.5 mm (LxDia. max) Pin Spacing 6.5 mm (typ))
simulation model CAP (Capacitor)
signal-integrity model Cap
pins: 1, 2

## RDPT0209250V
designator C?
Ceramic Singlelayer Tubular Capacitor: 250V, 9mm tube length; Note: See Datasheet for other packages & tolerances; Value: 6.8pF; Published: 17-Dec-2003; DatasheetDocument: 11-Aug-2000; PackageDocument: 11-Aug-2000; PackageReference: CAPRT6.5-10X3.5; Publisher: Altium Limited; ComponentLink1Description: Manufacturer Link; ComponentLink1URL: http://www.vishay.com/; ComponentLink2Description: Datasheet; ComponentLink2URL: http://www.vishay.com/docs/22020/rdpt02.pdf
footprint CAPRT6.5-10X3.5 (Capacitor, Ceramic, Thu-Hole, Tubular; Body 10 x 3.5 mm (LxDia. max) Pin Spacing 6.5 mm (typ))
simulation model CAP (Capacitor)
signal-integrity model Cap
pins: 1, 2

## RDPT0211125V
designator C?
Ceramic Singlelayer Tubular Capacitor: 125V, 11mm tube length; Note: See Datasheet for other packages & tolerances; Value: 6.8pF; Published: 17-Dec-2003; DatasheetDocument: 11-Aug-2000; PackageDocument: 11-Aug-2000; PackageReference: CAPRT8.3-12X3.5; Publisher: Altium Limited; ComponentLink1Description: Manufacturer Link; ComponentLink1URL: http://www.vishay.com/; ComponentLink2Description: Datasheet; ComponentLink2URL: http://www.vishay.com/docs/22020/rdpt02.pdf
footprint CAPRT8.3-12X3.5 (Capacitor, Ceramic, Thu-Hole, Tubular; Body 12 x 3.5 mm (LxDia. max) Pin Spacing 8.3 mm (typ))
simulation model CAP (Capacitor)
signal-integrity model Cap
pins: 1, 2

## RDPT0211250V
designator C?
Ceramic Singlelayer Tubular Capacitor: 250V, 11mm tube length; Note: See Datasheet for other packages & tolerances; Value: 6.8pF; Published: 17-Dec-2003; DatasheetDocument: 11-Aug-2000; PackageDocument: 11-Aug-2000; PackageReference: CAPRT8.3-12X3.5; Publisher: Altium Limited; ComponentLink1Description: Manufacturer Link; ComponentLink1URL: http://www.vishay.com/; ComponentLink2Description: Datasheet; ComponentLink2URL: http://www.vishay.com/docs/22020/rdpt02.pdf
footprint CAPRT8.3-12X3.5 (Capacitor, Ceramic, Thu-Hole, Tubular; Body 12 x 3.5 mm (LxDia. max) Pin Spacing 8.3 mm (typ))
simulation model CAP (Capacitor)
signal-integrity model Cap
pins: 1, 2

## RDPT0213125V
designator C?
Ceramic Singlelayer Tubular Capacitor: 125V, 13mm tube length; Note: See Datasheet for other packages & tolerances; Value: 6.8pF; Published: 17-Dec-2003; DatasheetDocument: 11-Aug-2000; PackageDocument: 11-Aug-2000; PackageReference: CAPRT10.6-14X3.5; Publisher: Altium Limited; ComponentLink1Description: Manufacturer Link; ComponentLink1URL: http://www.vishay.com/; ComponentLink2Description: Datasheet; ComponentLink2URL: http://www.vishay.com/docs/22020/rdpt02.pdf
footprint CAPRT10.6-14X3.5 (Capacitor, Ceramic, Thu-Hole, Tubular; Body 14 x 3.5 mm (LxDia. max) Pin Spacing 10.6 mm (typ))
simulation model CAP (Capacitor)
signal-integrity model Cap
pins: 1, 2

## RDPT0213250V
designator C?
Ceramic Singlelayer Tubular Capacitor: 250V, 13mm tube length; Note: See Datasheet for other packages & tolerances; Value: 6.8pF; Published: 17-Dec-2003; DatasheetDocument: 11-Aug-2000; PackageDocument: 11-Aug-2000; PackageReference: CAPRT10.6-14X3.5; Publisher: Altium Limited; ComponentLink1Description: Manufacturer Link; ComponentLink1URL: http://www.vishay.com/; ComponentLink2Description: Datasheet; ComponentLink2URL: http://www.vishay.com/docs/22020/rdpt02.pdf
footprint CAPRT10.6-14X3.5 (Capacitor, Ceramic, Thu-Hole, Tubular; Body 14 x 3.5 mm (LxDia. max) Pin Spacing 10.6 mm (typ))
simulation model CAP (Capacitor)
signal-integrity model Cap
pins: 1, 2

## RDQL0310400V
designator C?
Ceramic Singlelayer Tubular Capacitor: 400V with Controlled Short-term Stability (KzK), 10mm tube length; Note: See Datasheet for other packages & tolerances; Value: 2pF; Published: 17-Dec-2003; DatasheetDocument: 3-Sep-2000; PackageReference: CAPRT7.5-11X3.5; Publisher: Altium Limited; ComponentLink1Description: Manufacturer Link; ComponentLink1URL: http://www.vishay.com/; ComponentLink2Description: Datasheet; ComponentLink2URL: http://www.vishay.com/docs/22028/rdq.pdf
footprint CAPRT7.5-11X3.5 (Capacitor, Ceramic, Thu-Hole, Tubular; Body 11 x 3.5 mm (LxDia. max) Pin Spacing 7.5 mm (typ))
simulation model CAP (Capacitor)
signal-integrity model Cap
pins: 1, 2

## RDQL0312400V
designator C?
Ceramic Singlelayer Tubular Capacitor: 400V with Controlled Short-term Stability (KzK), 12mm tube length; Note: See Datasheet for other packages & tolerances; Value: 2pF; Published: 17-Dec-2003; DatasheetDocument: 3-Sep-2000; PackageReference: CAPRT9.5-13X3.5; Publisher: Altium Limited; ComponentLink1Description: Manufacturer Link; ComponentLink1URL: http://www.vishay.com/; ComponentLink2Description: Datasheet; ComponentLink2URL: http://www.vishay.com/docs/22028/rdq.pdf
footprint CAPRT9.5-13X3.5 (Capacitor, Ceramic, Thu-Hole, Tubular; Body 13 x 3.5 mm (LxDia. max) Pin Spacing 9.5 mm (typ))
simulation model CAP (Capacitor)
signal-integrity model Cap
pins: 1, 2

## RDQL0312400V1A
designator C?
Ceramic Singlelayer Tubular Capacitor: 400V with Controlled Short-term Stability (KzK) and Narrowed ac-tolerance (Class 1A), 12mm tube length; Note: See Datasheet for other packages & tolerances; Value: 2pF; Published: 17-Dec-2003; DatasheetDocument: 3-Sep-2000; PackageReference: CAPRT9.5-13X3.5; Publisher: Altium Limited; Note: Narrowed AC-tolerance (Class 1A); ComponentLink1Description: Manufacturer Link; ComponentLink1URL: http://www.vishay.com/; ComponentLink2Description: Datasheet; ComponentLink2URL: http://www.vishay.com/docs/22028/rdq.pdf
footprint CAPRT9.5-13X3.5 (Capacitor, Ceramic, Thu-Hole, Tubular; Body 13 x 3.5 mm (LxDia. max) Pin Spacing 9.5 mm (typ))
simulation model CAP (Capacitor)
signal-integrity model Cap
pins: 1, 2

## RDQL0314400V
designator C?
Ceramic Singlelayer Tubular Capacitor: 400V with Controlled Short-term Stability (KzK), 14mm tube length; Note: See Datasheet for other packages & tolerances; Value: 2pF; Published: 17-Dec-2003; DatasheetDocument: 3-Sep-2000; PackageReference: CAPRT11.5-15X3.5; Publisher: Altium Limited; ComponentLink1Description: Manufacturer Link; ComponentLink1URL: http://www.vishay.com/; ComponentLink2Description: Datasheet; ComponentLink2URL: http://www.vishay.com/docs/22028/rdq.pdf
footprint CAPRT11.5-15X3.5 (Capacitor, Ceramic, Thu-Hole, Tubular; Body 15 x 3.5 mm (LxDia. max) Pin Spacing 11.5 mm (typ))
simulation model CAP (Capacitor)
signal-integrity model Cap
pins: 1, 2

## RDQL0314400V1A
designator C?
Ceramic Singlelayer Tubular Capacitor: 400V with Controlled Short-term Stability (KzK) and Narrowed ac-tolerance (Class 1A), 14mm tube length; Note: See Datasheet for other packages & tolerances; Value: 2pF; Published: 17-Dec-2003; DatasheetDocument: 3-Sep-2000; PackageReference: CAPRT11.5-15X3.5; Publisher: Altium Limited; Note: Narrowed AC-tolerance (Class 1A); ComponentLink1Description: Manufacturer Link; ComponentLink1URL: http://www.vishay.com/; ComponentLink2Description: Datasheet; ComponentLink2URL: http://www.vishay.com/docs/22028/rdq.pdf
footprint CAPRT11.5-15X3.5 (Capacitor, Ceramic, Thu-Hole, Tubular; Body 15 x 3.5 mm (LxDia. max) Pin Spacing 11.5 mm (typ))
simulation model CAP (Capacitor)
signal-integrity model Cap
pins: 1, 2